# Altium integrated library ON Semi MOSFETs.IntLib: 1097 symbols (part 6 of 26)
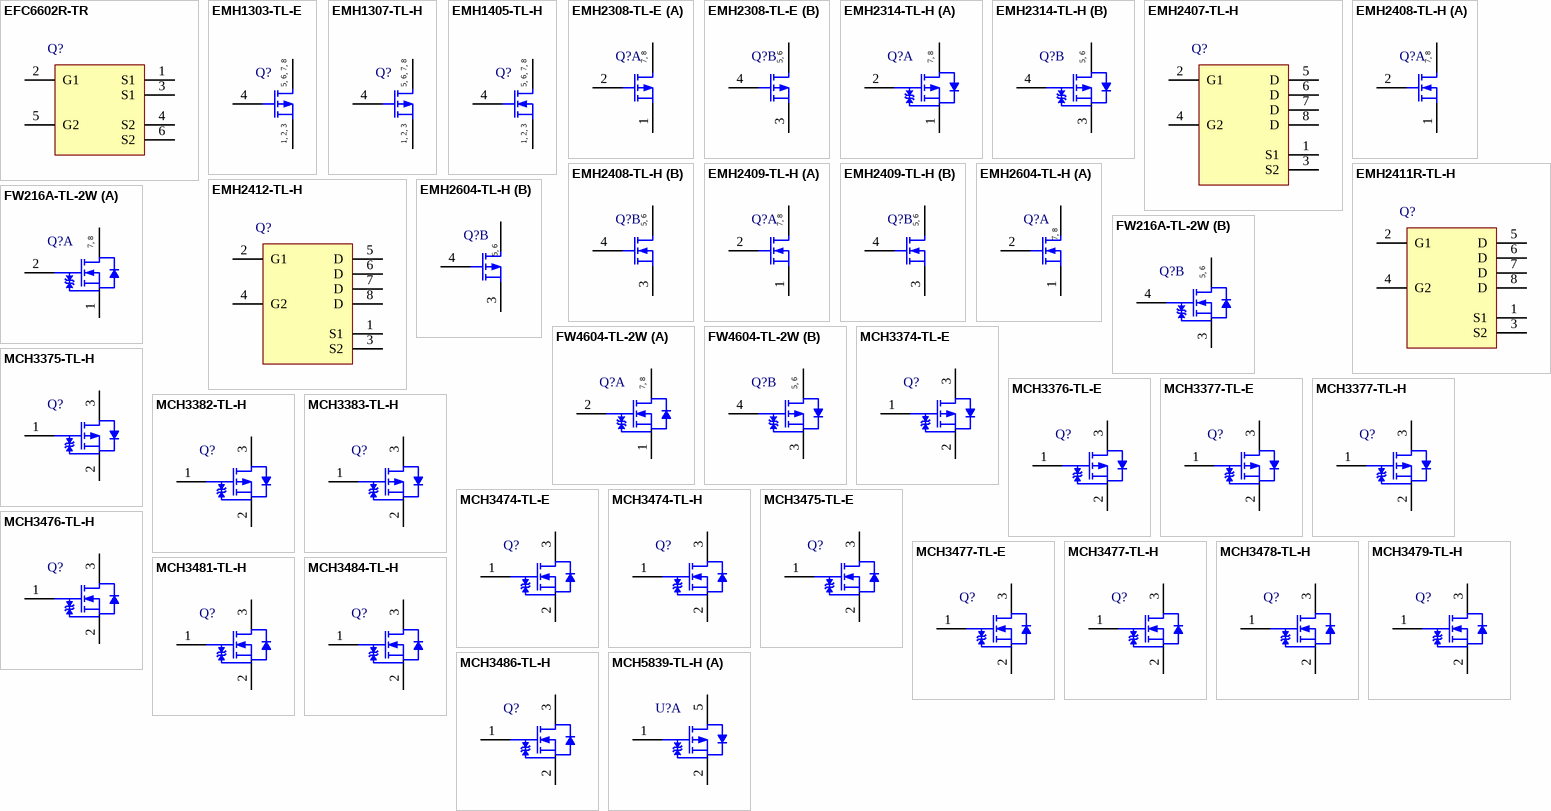
[diagram p36: symbols EFC6602R-TR to MCH5839-TL-H]

## MCH3474-TL-H
designator Q?
N-Channel Power MOSFET, 30 V, 4 A, 50 mOhm, 3-Pin MCPH, Pb-Free, Tape and Reel; Manufacturer: On Semiconductor; PartNumber: MCH3474-TL-H; Channel Polarity: N Channel; Ciss Typ (pF): 430; Configuration: Single; Coss Typ (pF): 59; Crss Typ (pF): 38; ID Max (A): 4; PD Max (W): 1; V(BR)DSS Min (V): 30; VGS Max (V): 12; VGS(th) Max (V): 1.3; PackageReference: MCPH-3; PackageDescription: 3-Pin Small Outline Transistor, Body 2 x 1.6 mm, Pitch 0.65 mm; Supplier 1: Digi-Key; Supplier Part Number 1: MCH3474-TL-H-ND; Supplier 2: Mouser; Supplier Part Number 2: 863-MCH3474-TL-H; Package Type: SC-70FL / MCPH-3; Packing: Tape and Reel; RoHS: Pb-Free; Mounting Technology: Surface Mount; ComponentLink1Description: Manufacturer URL; ComponentLink1URL: http://www.onsemi.com/; ComponentLink2Description: Datasheet; ComponentLink2URL: http://www.onsemi.com/PowerSolutions/product.do?id=MCH3474; ComponentLink3Description: Package Specification; ComponentLink3URL: http://www.onsemi.com/pub_link/Collateral/EN7354-D.PDF
footprint ONSC-MCPH-3_V (SOT23, 3-Leads, Body 2x1.6mm, Pitch 0.65mm)
pins: 1 G, 2 S, 3 D

## MCH3475-TL-E
designator Q?
N-Channel Power MOSFET, 30 V, 1.8 A, 180 mOhm, 3-Pin MCPH, Pb-Free, Tape and Reel; Manufacturer: On Semiconductor; PartNumber: MCH3475-TL-E; Channel Polarity: N Channel; Ciss Typ (pF): 88; Configuration: Single; Coss Typ (pF): 19; Crss Typ (pF): 11; ID Max (A): 1.8; PD Max (W): 0.8; V(BR)DSS Min (V): 30; VGS Max (V): 20; VGS(th) Max (V): 2.6; PackageReference: MCPH-3; PackageDescription: 3-Pin Small Outline Transistor, Body 2 x 1.6 mm, Pitch 0.65 mm; Supplier 1: Digi-Key; Supplier Part Number 1: 869-1172-2-ND; Supplier 2: Digi-Key; Supplier Part Number 2: 869-1172-1-ND; Supplier 3: Digi-Key; Supplier Part Number 3: 869-1172-6-ND; Supplier 4: Mouser; Supplier Part Number 4: 863-MCH3475-TL-E; Package Type: SC-70FL / MCPH-3; Packing: Tape and Reel; RoHS: Pb-Free; Mounting Technology: Surface Mount; ComponentLink1Description: Manufacturer URL; ComponentLink1URL: http://www.onsemi.com/; ComponentLink2Description: Datasheet; ComponentLink2URL: http://www.onsemi.cn/pub_link/Collateral/MCH3475-D.PDF; ComponentLink3Description: Package Specification; ComponentLink3URL: http://www.onsemi.com/pub_link/Collateral/EN7354-D.PDF
footprint ONSC-MCPH-3_V (SOT23, 3-Leads, Body 2x1.6mm, Pitch 0.65mm)
pins: 1 G, 2 S, 3 D

## MCH3476-TL-H
designator Q?
N-Channel Power MOSFET, 20 V, 2 A, 125 mOhm, 3-Pin MCPH, Pb-Free, Tape and Reel; Manufacturer: On Semiconductor; PartNumber: MCH3476-TL-H; Channel Polarity: N Channel; Ciss Typ (pF): 128; Configuration: Single; Coss Typ (pF): 28; Crss Typ (pF): 21; ID Max (A): 2; PD Max (W): 0.8; V(BR)DSS Min (V): 20; VGS Max (V): 12; VGS(th) Max (V): 1.3; PackageReference: MCPH-3; PackageDescription: 3-Pin Small Outline Transistor, Body 2 x 1.6 mm, Pitch 0.65 mm; Supplier 1: Digi-Key; Supplier Part Number 1: MCH3476-TL-H-ND; Supplier 2: Mouser; Supplier Part Number 2: 863-MCH3476-TL-H; Package Type: SC-70FL / MCPH-3; Packing: Tape and Reel; RoHS: Pb-Free; Mounting Technology: Surface Mount; ComponentLink1Description: Manufacturer URL; ComponentLink1URL: http://www.onsemi.com/; ComponentLink2Description: Datasheet; ComponentLink2URL: http://www.onsemi.cn/pub_link/Collateral/MCH3476.PDF; ComponentLink3Description: Package Specification; ComponentLink3URL: http://www.onsemi.com/pub_link/Collateral/EN7354-D.PDF
footprint ONSC-MCPH-3_V (SOT23, 3-Leads, Body 2x1.6mm, Pitch 0.65mm)
pins: 1 G, 2 S, 3 D

## MCH3477-TL-E
designator Q?
N-Channel Power MOSFET, 20 V, 4.5 A, 38 mOhm, 3-Pin MCPH, Pb-Free, Tape and Reel; Manufacturer: On Semiconductor; PartNumber: MCH3477-TL-E; Channel Polarity: N Channel; Ciss Typ (pF): 410; Configuration: Single; Coss Typ (pF): 84; Crss Typ (pF): 59; ID Max (A): 4.5; PD Max (W): 1; V(BR)DSS Min (V): 20; VGS Max (V): 12; VGS(th) Max (V): 1.3; PackageReference: MCPH-3; PackageDescription: 3-Pin Small Outline Transistor, Body 2 x 1.6 mm, Pitch 0.65 mm; Supplier 1: Digi-Key; Supplier Part Number 1: MCH3477-TL-E-ND; Supplier 2: Mouser; Supplier Part Number 2: 863-MCH3477-TL-E; Package Type: SC-70FL / MCPH-3; Packing: Tape and Reel; RoHS: Pb-Free; Mounting Technology: Surface Mount; ComponentLink1Description: Manufacturer URL; ComponentLink1URL: http://www.onsemi.com/; ComponentLink2Description: Datasheet; ComponentLink2URL: http://www.onsemi.com/pub_link/Collateral/MCH3477-D.PDF; ComponentLink3Description: Package Specification; ComponentLink3URL: http://www.onsemi.com/pub_link/Collateral/EN7354-D.PDF
footprint ONSC-MCPH-3_V (SOT23, 3-Leads, Body 2x1.6mm, Pitch 0.65mm)
pins: 1 G, 2 S, 3 D

## MCH3477-TL-H
designator Q?
N-Channel Power MOSFET, 20 V, 4.5 A, 38 mOhm, 3-Pin MCPH, Pb-Free, Tape and Reel; Manufacturer: On Semiconductor; PartNumber: MCH3477-TL-H; Channel Polarity: N Channel; Ciss Typ (pF): 410; Configuration: Single; Coss Typ (pF): 84; Crss Typ (pF): 59; ID Max (A): 4.5; PD Max (W): 1; V(BR)DSS Min (V): 20; VGS Max (V): 12; VGS(th) Max (V): 1.3; PackageReference: MCPH-3; PackageDescription: 3-Pin Small Outline Transistor, Body 2 x 1.6 mm, Pitch 0.65 mm; Supplier 1: Digi-Key; Supplier Part Number 1: MCH3477-TL-H-ND; Supplier 2: Mouser; Supplier Part Number 2: 863-MCH3477-TL-H; Package Type: SC-70FL / MCPH-3; Packing: Tape and Reel; RoHS: Pb-Free; Mounting Technology: Surface Mount; ComponentLink1Description: Manufacturer URL; ComponentLink1URL: http://www.onsemi.com/; ComponentLink2Description: Datasheet; ComponentLink2URL: http://www.onsemi.com/pub_link/Collateral/MCH3477-D.PDF; ComponentLink3Description: Package Specification; ComponentLink3URL: http://www.onsemi.com/pub_link/Collateral/EN7354-D.PDF
footprint ONSC-MCPH-3_V (SOT23, 3-Leads, Body 2x1.6mm, Pitch 0.65mm)
pins: 1 G, 2 S, 3 D

## MCH3478-TL-H
designator Q?
N-Channel Power MOSFET, 30 V, 2 A, 165 mOhm, 3-Pin MCPH, Pb-Free, Tape and Reel; Manufacturer: On Semiconductor; PartNumber: MCH3478-TL-H; Channel Polarity: N Channel; Ciss Typ (pF): 130; Configuration: Single; Coss Typ (pF): 21; Crss Typ (pF): 14; V(BR)DSS Min (V): 30; VGS Max (V): 12; VGS(th) Max (V): 1.3; PackageReference: MCPH-3; PackageDescription: 3-Pin Small Outline Transistor, Body 2 x 1.6 mm, Pitch 0.65 mm; Supplier 1: Digi-Key; Supplier Part Number 1: MCH3478-TL-H-ND; Supplier 2: Mouser; Supplier Part Number 2: 863-MCH3478-TL-H; Package Type: SC-70FL / MCPH-3; Packing: Tape and Reel; RoHS: Pb-Free; Mounting Technology: Surface Mount; ComponentLink1Description: Manufacturer URL; ComponentLink1URL: http://www.onsemi.com/; ComponentLink2Description: Datasheet; ComponentLink2URL: http://www.onsemi.cn/pub_link/Collateral/ENAA1353-D.PDF; ComponentLink3Description: Package Specification; ComponentLink3URL: http://www.onsemi.com/pub_link/Collateral/EN7354-D.PDF
footprint ONSC-MCPH-3_V (SOT23, 3-Leads, Body 2x1.6mm, Pitch 0.65mm)
pins: 1 G, 2 S, 3 D

## MCH3479-TL-H
designator Q?
N-Channel Power MOSFET, 20 V, 3.5 A, 64 mOhm, 3-Pin MCPH, Pb-Free, Tape and Reel; Manufacturer: On Semiconductor; PartNumber: MCH3479-TL-H; Channel Polarity: N Channel; Ciss Typ (pF): 260; Configuration: Single; Coss Typ (pF): 65; Crss Typ (pF): 50; ID Max (A): 3.5; PD Max (W): 0.9; V(BR)DSS Min (V): 20; VGS Max (V): 12; VGS(th) Max (V): 1.3; PackageReference: MCPH-3; PackageDescription: 3-Pin Small Outline Transistor, Body 2 x 1.6 mm, Pitch 0.65 mm; Supplier 1: Digi-Key; Supplier Part Number 1: MCH3479-TL-H-ND; Supplier 2: Mouser; Supplier Part Number 2: 863-MCH3479-TL-H; Package Type: SC-70FL / MCPH-3; Packing: Tape and Reel; RoHS: Pb-Free; Mounting Technology: Surface Mount; ComponentLink1Description: Manufacturer URL; ComponentLink1URL: http://www.onsemi.com/; ComponentLink2Description: Datasheet; ComponentLink2URL: http://www.onsemi.cn/pub_link/Collateral/ENA1813-D.PDF; ComponentLink3Description: Package Specification; ComponentLink3URL: http://www.onsemi.com/pub_link/Collateral/EN7354-D.PDF
footprint ONSC-MCPH-3_V (SOT23, 3-Leads, Body 2x1.6mm, Pitch 0.65mm)
pins: 1 G, 2 S, 3 D

## MCH3481-TL-H
designator Q?
N-Channel Power MOSFET, 20 V, 2 A, 104 mOhm, 3-Pin MCPH, Pb-Free, Tape and Reel; Manufacturer: On Semiconductor; PartNumber: MCH3481-TL-H; Channel Polarity: N Channel; Ciss Typ (pF): 175; Configuration: Single; Coss Typ (pF): 30; Crss Typ (pF): 25; ID Max (A): 2; PD Max (W): 0.8; V(BR)DSS Min (V): 20; VGS Max (V): 9; VGS(th) Max (V): 0.9; PackageReference: MCPH-3; PackageDescription: 3-Pin Small Outline Transistor, Body 2 x 1.6 mm, Pitch 0.65 mm; Supplier 1: Digi-Key; Supplier Part Number 1: MCH3481-TL-H-ND; Supplier 2: Newark; Supplier Part Number 2: 07W7072; Supplier 3: Mouser; Supplier Part Number 3: 863-MCH3481-TL-H; Package Type: SC-70FL / MCPH-3; Packing: Tape and Reel; RoHS: Pb-Free; Mounting Technology: Surface Mount; ComponentLink1Description: Manufacturer URL; ComponentLink1URL: http://www.onsemi.com/; ComponentLink2Description: Datasheet; ComponentLink2URL: http://www.onsemi.com/pub_link/Collateral/ENA1767-D.PDF; ComponentLink3Description: Package Specification; ComponentLink3URL: http://www.onsemi.com/pub_link/Collateral/EN7354-D.PDF
footprint ONSC-MCPH-3_V (SOT23, 3-Leads, Body 2x1.6mm, Pitch 0.65mm)
pins: 1 G, 2 S, 3 D

## MCH3484-TL-H
designator Q?
N-Channel Power MOSFET, 20 V, 4.5 A, 40 mOhm, 3-Pin MCPH, Pb-Free, Tape and Reel; Manufacturer: On Semiconductor; PartNumber: MCH3484-TL-H; Channel Polarity: N Channel; Ciss Typ (pF): 630; Configuration: Single; Coss Typ (pF): 75; Crss Typ (pF): 65; ID Max (A): 4.5; PD Max (W): 1; V(BR)DSS Min (V): 20; VGS Max (V): 5; VGS(th) Max (V): 0.8; PackageReference: MCPH-3; PackageDescription: 3-Pin Small Outline Transistor, Body 2 x 1.6 mm, Pitch 0.65 mm; Supplier 1: Digi-Key; Supplier Part Number 1: MCH3484-TL-H-ND; Supplier 2: Mouser; Supplier Part Number 2: 863-MCH3484-TL-H; Package Type: SC-70FL / MCPH-3; Packing: Tape and Reel; RoHS: Pb-Free; Mounting Technology: Surface Mount; ComponentLink1Description: Manufacturer URL; ComponentLink1URL: http://www.onsemi.com/; ComponentLink2Description: Datasheet; ComponentLink2URL: http://www.onsemi.cn/pub_link/Collateral/ENA1883-D.PDF; ComponentLink3Description: Package Specification; ComponentLink3URL: http://www.onsemi.com/pub_link/Collateral/EN7354-D.PDF
footprint ONSC-MCPH-3_V (SOT23, 3-Leads, Body 2x1.6mm, Pitch 0.65mm)
pins: 1 G, 2 S, 3 D

## MCH3486-TL-H
designator Q?
N-Channel Power MOSFET, 60 V, 2 A, 137 mOhm, 3-Pin MCPH, Pb-Free, Tape and Reel; Manufacturer: On Semiconductor; PartNumber: MCH3486-TL-H; Channel Polarity: N Channel; Ciss Typ (pF): 310; Configuration: Single; Coss Typ (pF): 40; Crss Typ (pF): 25; ID Max (A): 2; PD Max (W): 1; V(BR)DSS Min (V): 60; VGS Max (V): 20; VGS(th) Max (V): 2.6; PackageReference: MCPH-3; PackageDescription: 3-Pin Small Outline Transistor, Body 2 x 1.6 mm, Pitch 0.65 mm; Supplier 1: Newark; Supplier Part Number 1: 97W6144; Supplier 2: Mouser; Supplier Part Number 2: 863-MCH3486-TL-H; Package Type: SC-70FL / MCPH-3; Packing: Tape and Reel; RoHS: Pb-Free; Mounting Technology: Surface Mount; ComponentLink1Description: Manufacturer URL; ComponentLink1URL: http://www.onsemi.com/; ComponentLink2Description: Datasheet; ComponentLink2URL: http://www.onsemi.com/pub_link/Collateral/ENA2188-D.PDF; ComponentLink3Description: Package Specification; ComponentLink3URL: http://www.onsemi.com/pub_link/Collateral/EN7354-D.PDF
footprint ONSC-MCPH-3_V (SOT23, 3-Leads, Body 2x1.6mm, Pitch 0.65mm)
pins: 1 G, 2 S, 3 D

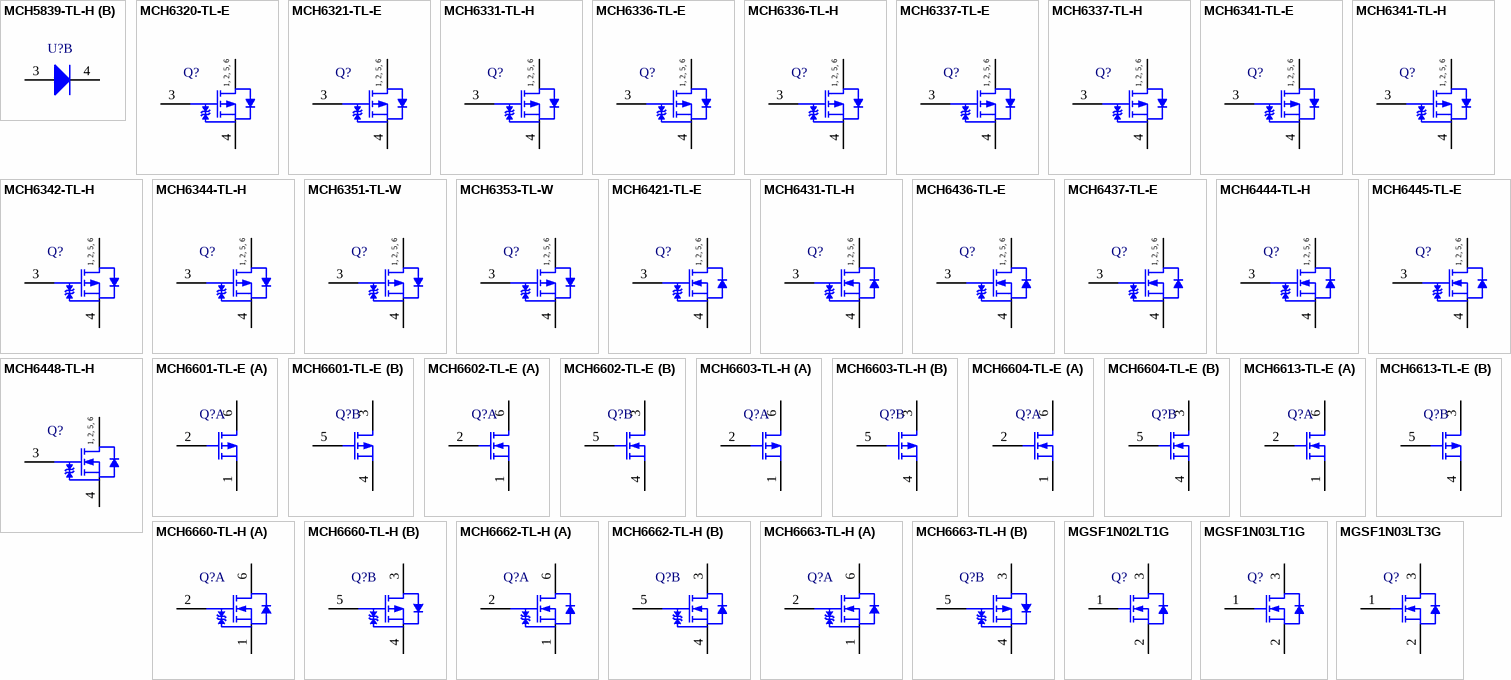
[diagram p6: symbols MCH5839-TL-H to MGSF1N03LT3G]

## MCH5839-TL-H
designator U?
P-Channel Power MOSFET, -20 V, -1.5 A, 266 mOhm, 5-Pin MCPH, Pb-Free, Tape and Reel; Manufacturer: On Semiconductor; PartNumber: MCH5839-TL-H; Channel Polarity: P Channel; Ciss Typ (pF): 120; Configuration: with Schottky Diode; Coss Typ (pF): 26; Crss Typ (pF): 20; ID Max (A): 1.5; PD Max (W): 0.8; VGS Max (V): 10; VGS(th) Max (V): 1.4; PackageReference: MCPH-5; PackageDescription: 5-Pin Small Outline Transistor, Body 2 x 1.6 mm, Pitch 0.65 mm; Supplier 1: Newark; Supplier Part Number 1: 97W6145; Supplier 2: Mouser; Supplier Part Number 2: 863-MCH5839-TL-H; Package Type: SC-88AFL / MCPH-5; Packing: Tape and Reel; RoHS: Pb-Free; V(BR)DSS Min (V): 20; Mounting Technology: Surface Mount; ComponentLink1Description: Manufacturer URL; ComponentLink1URL: http://www.onsemi.com/; ComponentLink2Description: Datasheet; ComponentLink2URL: http://www.onsemi.cn/pub_link/Collateral/ENA2165-D.PDF; ComponentLink3Description: Package Specification; ComponentLink3URL: http://www.onsemi.com/pub_link/Collateral/ENA1218-D.PDF
footprint ONSC-MCPH-5_V (SOT23, 5-Leads, Body 2x1.6mm, Pitch 0.65mm)
part A pins: 1 G, 2 S, 5 D
part B pins: 3 A, 4 K

## MCH6320-TL-E
designator Q?
P-Channel Power MOSFET, -12 V, -3.5 A, 70 mOhm, Single, 6-Pin MCPH, Pb-Free, Tape and Reel; Manufacturer: On Semiconductor; PartNumber: MCH6320-TL-E; Channel Polarity: P Channel; Ciss Typ (pF): 405; Coss Typ (pF): 145; Crss Typ (pF): 100; ID Max (A): 3.5; PD Max (W): 1.5; V(BR)DSS Min (V): 12; VGS Max (V): 10; VGS(th) Max (V): 1.4; PackageReference: MCPH-6; PackageDescription: 6-Pin Small Outline Transistor, Body 2 x 1.6 mm, Pitch 0.65 mm; Supplier 1: Digi-Key; Supplier Part Number 1: MCH6320-TL-E-ND; Supplier 2: Mouser; Supplier Part Number 2: 863-MCH6320-TL-E; Configuration: Single; Package Type: SC-88FL / MCPH-6; Packing: Tape and Reel; RoHS: Pb-Free; Mounting Technology: Surface Mount; ComponentLink1Description: Manufacturer URL; ComponentLink1URL: http://www.onsemi.com/; ComponentLink2Description: Datasheet; ComponentLink2URL: http://www.onsemi.cn/pub_link/Collateral/MCH6320-D.PDF; ComponentLink3Description: Package Specification; ComponentLink3URL: http://www.onsemi.com/pub_link/Collateral/ENA1601-D.PDF
footprint ONSC-MCPH-6_V (SOT23, 6-Leads, Body 2x1.6mm, Pitch 0.65mm)
pins: 1 D, 2 D, 3 G, 4 S, 5 D, 6 D
text: 1, 2, 5, 6

## MCH6321-TL-E
designator Q?
P-Channel Power MOSFET, -20 V, -4 A, 83 mOhm, Single, 6-Pin MCPH, Pb-Free, Tape and Reel; Manufacturer: On Semiconductor; PartNumber: MCH6321-TL-E; Channel Polarity: P Channel; Ciss Typ (pF): 375; Coss Typ (pF): 77; Crss Typ (pF): 58; ID Max (A): 4; PD Max (W): 1.5; V(BR)DSS Min (V): 20; VGS Max (V): 10; VGS(th) Max (V): 1.3; PackageReference: MCPH-6; PackageDescription: 6-Pin Small Outline Transistor, Body 2 x 1.6 mm, Pitch 0.65 mm; Supplier 1: Digi-Key; Supplier Part Number 1: MCH6321-TL-E-ND; Supplier 2: Mouser; Supplier Part Number 2: 863-MCH6321-TL-E; Configuration: Single; Package Type: SC-88FL / MCPH-6; Packing: Tape and Reel; RoHS: Pb-Free; Mounting Technology: Surface Mount; ComponentLink1Description: Manufacturer URL; ComponentLink1URL: http://www.onsemi.com/; ComponentLink2Description: Datasheet; ComponentLink2URL: http://www.onsemi.cn/pub_link/Collateral/MCH6321-D.PDF; ComponentLink3Description: Package Specification; ComponentLink3URL: http://www.onsemi.com/pub_link/Collateral/ENA1601-D.PDF
footprint ONSC-MCPH-6_V (SOT23, 6-Leads, Body 2x1.6mm, Pitch 0.65mm)
pins: 1 D, 2 D, 3 G, 4 S, 5 D, 6 D
text: 1, 2, 5, 6

## MCH6331-TL-H
designator Q?
P-Channel Power MOSFET, -30 V, -3.5 A, 98 mOhm, Single, 6-Pin MCPH, Pb-Free, Tape and Reel; Manufacturer: On Semiconductor; PartNumber: MCH6331-TL-H; Channel Polarity: P Channel; Ciss Typ (pF): 250; Coss Typ (pF): 65; Crss Typ (pF): 46; ID Max (A): 3.5; PD Max (W): 1.5; V(BR)DSS Min (V): 30; VGS Max (V): 20; VGS(th) Max (V): 2.6; PackageReference: MCPH-6; PackageDescription: 6-Pin Small Outline Transistor, Body 2 x 1.6 mm, Pitch 0.65 mm; Supplier 1: Digi-Key; Supplier Part Number 1: MCH6331-TL-H-ND; Supplier 2: Mouser; Supplier Part Number 2: 863-MCH6331-TL-H; Configuration: Single; Package Type: SC-88FL / MCPH-6; Packing: Tape and Reel; RoHS: Pb-Free; Mounting Technology: Surface Mount; ComponentLink1Description: Manufacturer URL; ComponentLink1URL: http://www.onsemi.com/; ComponentLink2Description: Datasheet; ComponentLink2URL: http://www.onsemi.cn/pub_link/Collateral/MCH6331-D.PDF; ComponentLink3Description: Package Specification; ComponentLink3URL: http://www.onsemi.com/pub_link/Collateral/ENA1601-D.PDF
footprint ONSC-MCPH-6_V (SOT23, 6-Leads, Body 2x1.6mm, Pitch 0.65mm)
pins: 1 D, 2 D, 3 G, 4 S, 5 D, 6 D
text: 1, 2, 5, 6

## MCH6336-TL-E
designator Q?
P-Channel Power MOSFET, -12 V, -5 A, 43 mOhm, Single, 6-Pin MCPH, Pb-Free, Tape and Reel; Manufacturer: On Semiconductor; PartNumber: MCH6336-TL-E; Channel Polarity: P Channel; Ciss Typ (pF): 660; Coss Typ (pF): 210; Crss Typ (pF): 155; ID Max (A): 5; PD Max (W): 1.5; V(BR)DSS Min (V): 12; VGS Max (V): 10; VGS(th) Max (V): 1.4; PackageReference: MCPH-6; PackageDescription: 6-Pin Small Outline Transistor, Body 2 x 1.6 mm, Pitch 0.65 mm; Supplier 1: Newark; Supplier Part Number 1: 45W8491; Supplier 2: Mouser; Supplier Part Number 2: 863-MCH6336-TL-E; Configuration: Single; Package Type: SC-88FL / MCPH-6; Packing: Tape and Reel; RoHS: Pb-Free; Mounting Technology: Surface Mount; ComponentLink1Description: Manufacturer URL; ComponentLink1URL: http://www.onsemi.com/; ComponentLink2Description: Datasheet; ComponentLink2URL: http://www.onsemi.cn/pub_link/Collateral/MCH6336-D.PDF; ComponentLink3Description: Package Specification; ComponentLink3URL: http://www.onsemi.com/pub_link/Collateral/ENA1601-D.PDF
footprint ONSC-MCPH-6_V (SOT23, 6-Leads, Body 2x1.6mm, Pitch 0.65mm)
pins: 1 D, 2 D, 3 G, 4 S, 5 D, 6 D
text: 1, 2, 5, 6

## MCH6336-TL-H
designator Q?
P-Channel Power MOSFET, -12 V, -5 A, 43 mOhm, Single, 6-Pin MCPH, Pb-Free, Tape and Reel; Manufacturer: On Semiconductor; PartNumber: MCH6336-TL-H; Channel Polarity: P Channel; Ciss Typ (pF): 660; Coss Typ (pF): 210; Crss Typ (pF): 155; ID Max (A): 5; PD Max (W): 1.5; V(BR)DSS Min (V): 12; VGS Max (V): 10; VGS(th) Max (V): 1.4; PackageReference: MCPH-6; PackageDescription: 6-Pin Small Outline Transistor, Body 2 x 1.6 mm, Pitch 0.65 mm; Supplier 1: Digi-Key; Supplier Part Number 1: MCH6336-TL-H-ND; Supplier 2: Mouser; Supplier Part Number 2: 863-MCH6336-TL-H; Configuration: Single; Package Type: SC-88FL / MCPH-6; Packing: Tape and Reel; RoHS: Pb-Free; Mounting Technology: Surface Mount; ComponentLink1Description: Manufacturer URL; ComponentLink1URL: http://www.onsemi.com/; ComponentLink2Description: Datasheet; ComponentLink2URL: http://www.onsemi.cn/pub_link/Collateral/MCH6336-D.PDF; ComponentLink3Description: Package Specification; ComponentLink3URL: http://www.onsemi.com/pub_link/Collateral/ENA1601-D.PDF
footprint ONSC-MCPH-6_V (SOT23, 6-Leads, Body 2x1.6mm, Pitch 0.65mm)
pins: 1 D, 2 D, 3 G, 4 S, 5 D, 6 D
text: 1, 2, 5, 6

## MCH6337-TL-E
designator Q?
P-Channel Power MOSFET, -20 V, -4.5 A, 49 mOhm, Single, 6-Pin MCPH, Pb-Free, Tape and Reel; Manufacturer: On Semiconductor; PartNumber: MCH6337-TL-E; Channel Polarity: P Channel; Ciss Typ (pF): 670; Coss Typ (pF): 130; Crss Typ (pF): 94; ID Max (A): 4.5; PD Max (W): 1.5; V(BR)DSS Min (V): 20; VGS Max (V): 10; VGS(th) Max (V): 1.3; PackageReference: MCPH-6; PackageDescription: 6-Pin Small Outline Transistor, Body 2 x 1.6 mm, Pitch 0.65 mm; Supplier 1: Digi-Key; Supplier Part Number 1: 869-1177-2-ND; Supplier 2: Digi-Key; Supplier Part Number 2: 869-1177-1-ND; Supplier 3: Digi-Key; Supplier Part Number 3: 869-1177-6-ND; Supplier 4: Newark; Supplier Part Number 4: 45W8492; Supplier 5: Mouser; Supplier Part Number 5: 863-MCH6337-TL-E; Configuration: Single; Package Type: SC-88FL / MCPH-6; Packing: Tape and Reel; RoHS: Pb-Free; Mounting Technology: Surface Mount; ComponentLink1Description: Manufacturer URL; ComponentLink1URL: http://www.onsemi.com/; ComponentLink2Description: Datasheet; ComponentLink2URL: http://www.onsemi.cn/pub_link/Collateral/MCH6337-D.PDF; ComponentLink3Description: Package Specification; ComponentLink3URL: http://www.onsemi.com/pub_link/Collateral/ENA1601-D.PDF
footprint ONSC-MCPH-6_V (SOT23, 6-Leads, Body 2x1.6mm, Pitch 0.65mm)
pins: 1 D, 2 D, 3 G, 4 S, 5 D, 6 D
text: 1, 2, 5, 6

## MCH6337-TL-H
designator Q?
P-Channel Power MOSFET, -20 V, -4.5 A, 49 mOhm, Single, 6-Pin MCPH, Pb-Free, Tape and Reel; Manufacturer: On Semiconductor; PartNumber: MCH6337-TL-H; Channel Polarity: P Channel; Ciss Typ (pF): 670; Coss Typ (pF): 130; Crss Typ (pF): 94; ID Max (A): 4.5; PD Max (W): 1.5; V(BR)DSS Min (V): 20; VGS Max (V): 10; VGS(th) Max (V): 1.3; PackageReference: MCPH-6; PackageDescription: 6-Pin Small Outline Transistor, Body 2 x 1.6 mm, Pitch 0.65 mm; Supplier 1: Digi-Key; Supplier Part Number 1: MCH6337-TL-H-ND; Supplier 2: Mouser; Supplier Part Number 2: 863-MCH6337-TL-H; Configuration: Single; Package Type: SC-88FL / MCPH-6; Packing: Tape and Reel; RoHS: Pb-Free; Mounting Technology: Surface Mount; ComponentLink1Description: Manufacturer URL; ComponentLink1URL: http://www.onsemi.com/; ComponentLink2Description: Datasheet; ComponentLink2URL: http://www.onsemi.cn/pub_link/Collateral/MCH6337-D.PDF; ComponentLink3Description: Package Specification; ComponentLink3URL: http://www.onsemi.com/pub_link/Collateral/ENA1601-D.PDF
footprint ONSC-MCPH-6_V (SOT23, 6-Leads, Body 2x1.6mm, Pitch 0.65mm)
pins: 1 D, 2 D, 3 G, 4 S, 5 D, 6 D
text: 1, 2, 5, 6

## MCH6341-TL-E
designator Q?
P-Channel Power MOSFET, -30 V, -5 A, 59 mOhm, Single, 6-Pin MCPH, Pb-Free, Tape and Reel; Manufacturer: On Semiconductor; PartNumber: MCH6341-TL-E; Channel Polarity: P Channel; Ciss Typ (pF): 430; Coss Typ (pF): 105; Crss Typ (pF): 75; ID Max (A): 5; PD Max (W): 1.5; V(BR)DSS Min (V): 30; VGS Max (V): 20; VGS(th) Max (V): 2.6; PackageReference: MCPH-6; PackageDescription: 6-Pin Small Outline Transistor, Body 2 x 1.6 mm, Pitch 0.65 mm; Supplier 1: Digi-Key; Supplier Part Number 1: MCH6341-TL-E-ND; Supplier 2: Mouser; Supplier Part Number 2: 863-MCH6341-TL-E; Configuration: Single; Package Type: SC-88FL / MCPH-6; Packing: Tape and Reel; RoHS: Pb-Free; Mounting Technology: Surface Mount; ComponentLink1Description: Manufacturer URL; ComponentLink1URL: http://www.onsemi.com/; ComponentLink2Description: Datasheet; ComponentLink2URL: http://www.onsemi.cn/pub_link/Collateral/MCH6341-D.PDF; ComponentLink3Description: Package Specification; ComponentLink3URL: http://www.onsemi.com/pub_link/Collateral/ENA1601-D.PDF
footprint ONSC-MCPH-6_V (SOT23, 6-Leads, Body 2x1.6mm, Pitch 0.65mm)
pins: 1 D, 2 D, 3 G, 4 S, 5 D, 6 D
text: 1, 2, 5, 6

## MCH6341-TL-H
designator Q?
P-Channel Power MOSFET, -30 V, -5 A, 59 mOhm, Single, 6-Pin MCPH, Pb-Free, Tape and Reel; Manufacturer: On Semiconductor; PartNumber: MCH6341-TL-H; Channel Polarity: P Channel; Ciss Typ (pF): 430; Coss Typ (pF): 105; Crss Typ (pF): 75; ID Max (A): 5; PD Max (W): 1.5; V(BR)DSS Min (V): 30; VGS Max (V): 20; VGS(th) Max (V): 2.6; PackageReference: MCPH-6; PackageDescription: 6-Pin Small Outline Transistor, Body 2 x 1.6 mm, Pitch 0.65 mm; Supplier 1: Digi-Key; Supplier Part Number 1: MCH6341-TL-H-ND; Supplier 2: Mouser; Supplier Part Number 2: 863-MCH6341-TL-H; Configuration: Single; Package Type: SC-88FL / MCPH-6; Packing: Tape and Reel; RoHS: Pb-Free; Mounting Technology: Surface Mount; ComponentLink1Description: Manufacturer URL; ComponentLink1URL: http://www.onsemi.com/; ComponentLink2Description: Datasheet; ComponentLink2URL: http://www.onsemi.cn/pub_link/Collateral/MCH6341-D.PDF; ComponentLink3Description: Package Specification; ComponentLink3URL: http://www.onsemi.com/pub_link/Collateral/ENA1601-D.PDF
footprint ONSC-MCPH-6_V (SOT23, 6-Leads, Body 2x1.6mm, Pitch 0.65mm)
pins: 1 D, 2 D, 3 G, 4 S, 5 D, 6 D
text: 1, 2, 5, 6

## MCH6342-TL-H
designator Q?
P-Channel Power MOSFET, -30 V, -4.5 A, 73 mOhm, Single, 6-Pin MCPH, Pb-Free, Tape and Reel; Manufacturer: On Semiconductor; PartNumber: MCH6342-TL-H; Channel Polarity: P Channel; Ciss Typ (pF): 650; Coss Typ (pF): 105; Crss Typ (pF): 83; ID Max (A): 4.5; PD Max (W): 1.5; V(BR)DSS Min (V): 30; VGS Max (V): 10; VGS(th) Max (V): 1.3; PackageReference: MCPH-6; PackageDescription: 6-Pin Small Outline Transistor, Body 2 x 1.6 mm, Pitch 0.65 mm; Supplier 1: Digi-Key; Supplier Part Number 1: MCH6342-TL-H-ND; Supplier 2: Mouser; Supplier Part Number 2: 863-MCH6342-TL-H; Configuration: Single; Package Type: SC-88FL / MCPH-6; Packing: Tape and Reel; RoHS: Pb-Free; Mounting Technology: Surface Mount; ComponentLink1Description: Manufacturer URL; ComponentLink1URL: http://www.onsemi.com/; ComponentLink2Description: Datasheet; ComponentLink2URL: http://www.onsemi.cn/pub_link/Collateral/ENA1553-D.PDF; ComponentLink3Description: Package Specification; ComponentLink3URL: http://www.onsemi.com/pub_link/Collateral/ENA1601-D.PDF
footprint ONSC-MCPH-6_V (SOT23, 6-Leads, Body 2x1.6mm, Pitch 0.65mm)
pins: 1 D, 2 D, 3 G, 4 S, 5 D, 6 D
text: 1, 2, 5, 6

## MCH6344-TL-H
designator Q?
P-Channel Power MOSFET, -30 V, -2 A, 150 mOhm, Single, 6-Pin MCPH, Pb-Free, Tape and Reel; Manufacturer: On Semiconductor; PartNumber: MCH6344-TL-H; Channel Polarity: P Channel; Ciss Typ (pF): 172; Coss Typ (pF): 51; Crss Typ (pF): 36; ID Max (A): 2; PD Max (W): 0.8; V(BR)DSS Min (V): 30; VGS Max (V): 20; VGS(th) Max (V): 2.6; PackageReference: MCPH-6; PackageDescription: 6-Pin Small Outline Transistor, Body 2 x 1.6 mm, Pitch 0.65 mm; Supplier 1: Digi-Key; Supplier Part Number 1: MCH6344-TL-H-ND; Supplier 2: Mouser; Supplier Part Number 2: 863-MCH6344-TL-H; Configuration: Single; Package Type: SC-88FL / MCPH-6; Packing: Tape and Reel; RoHS: Pb-Free; Mounting Technology: Surface Mount; ComponentLink1Description: Manufacturer URL; ComponentLink1URL: http://www.onsemi.com/; ComponentLink2Description: Datasheet; ComponentLink2URL: http://www.onsemi.cn/pub_link/Collateral/EN8934-D.PDF; ComponentLink3Description: Package Specification; ComponentLink3URL: http://www.onsemi.com/pub_link/Collateral/ENA1601-D.PDF
footprint ONSC-MCPH-6_V (SOT23, 6-Leads, Body 2x1.6mm, Pitch 0.65mm)
pins: 1 D, 2 D, 3 G, 4 S, 5 D, 6 D
text: 1, 2, 5, 6

## MCH6351-TL-W
designator Q?
P-Channel Power MOSFET -12 V, -9 A, 16.9 mOhm, Single, 6-Pin MCPH, Pb-Free, Tape and Reel; Manufacturer: On Semiconductor; PartNumber: MCH6351-TL-W; Channel Polarity: P Channel; Ciss Typ (pF): 2200; Coss Typ (pF): 350; Crss Typ (pF): 320; ID Max (A): 9; PD Max (W): 1.5; V(BR)DSS Min (V): 12; VGS Max (V): 10; VGS(th) Max (V): 1.3; PackageReference: MCPH-6; PackageDescription: 6-Pin Small Outline Transistor, Body 2 x 1.6 mm, Pitch 0.65 mm; Supplier 1: Newark; Supplier Part Number 1: 97W6146; Supplier 2: Mouser; Supplier Part Number 2: 863-MCH6351-TL-W; Configuration: Single; Package Type: SC-88FL / MCPH-6; Packing: Tape and Reel; RoHS: Pb-Free; Mounting Technology: Surface Mount; ComponentLink1Description: Manufacturer URL; ComponentLink1URL: http://www.onsemi.com/; ComponentLink2Description: Datasheet; ComponentLink2URL: http://www.onsemi.com/pub_link/Collateral/ENA2198-D.PDF; ComponentLink3Description: Package Specification; ComponentLink3URL: http://www.onsemi.com/pub_link/Collateral/ENA1601-D.PDF
footprint ONSC-MCPH-6_V (SOT23, 6-Leads, Body 2x1.6mm, Pitch 0.65mm)
pins: 1 D, 2 D, 3 G, 4 S, 5 D, 6 D
text: 1, 2, 5, 6

## MCH6353-TL-W
designator Q?
P-Channel Power MOSFET, -12 V, -6.0 A, 35 mOhm, Single, 6-Pin MCPH, Pb-Free, Tape and Reel; Manufacturer: On Semiconductor; PartNumber: MCH6353-TL-W; Channel Polarity: P Channel; Ciss Typ (pF): 1250; Coss Typ (pF): 160; Crss Typ (pF): 150; ID Max (A): 6; PD Max (W): 1.4; V(BR)DSS Min (V): 12; VGS Max (V): 10; PackageReference: MCPH-6; PackageDescription: 6-Pin Small Outline Transistor, Body 2 x 1.6 mm, Pitch 0.65 mm; Supplier 1: Newark; Supplier Part Number 1: 11X3289; Supplier 2: Mouser; Supplier Part Number 2: 863-MCH6353-TL-W; Configuration: Single; Package Type: SC-88FL / MCPH-6; Packing: Tape and Reel; RoHS: Pb-Free; VGS(th) Max (V): 1.4; Mounting Technology: Surface Mount; ComponentLink1Description: Manufacturer URL; ComponentLink1URL: http://www.onsemi.com/; ComponentLink2Description: Datasheet; ComponentLink2URL: http://www.onsemi.com/pub_link/Collateral/ENA2206-D.PDF; ComponentLink3Description: Package Specification; ComponentLink3URL: http://www.onsemi.com/pub_link/Collateral/ENA1601-D.PDF
footprint ONSC-MCPH-6_V (SOT23, 6-Leads, Body 2x1.6mm, Pitch 0.65mm)
pins: 1 D, 2 D, 3 G, 4 S, 5 D, 6 D
text: 1, 2, 5, 6

## MCH6421-TL-E
designator Q?
N-Channel Power MOSFET, 20 V, 5.5 A, 38 mOhm, Single, 6-Pin MCPH, Pb-Free, Tape and Reel; Manufacturer: On Semiconductor; PartNumber: MCH6421-TL-E; Channel Polarity: N Channel; Ciss Typ (pF): 410; Coss Typ (pF): 84; Crss Typ (pF): 59; ID Max (A): 5.5; PD Max (W): 1.5; V(BR)DSS Min (V): 20; VGS Max (V): 12; VGS(th) Max (V): 1.3; PackageReference: MCPH-6; PackageDescription: 6-Pin Small Outline Transistor, Body 2 x 1.6 mm, Pitch 0.65 mm; Supplier 1: Digi-Key; Supplier Part Number 1: MCH6421-TL-E-ND; Supplier 2: Newark; Supplier Part Number 2: 65T1382; Supplier 3: Mouser; Supplier Part Number 3: 863-MCH6421-TL-E; Configuration: Single; Package Type: SC-88FL / MCPH-6; Packing: Tape and Reel; RoHS: Pb-Free; Mounting Technology: Surface Mount; ComponentLink1Description: Manufacturer URL; ComponentLink1URL: http://www.onsemi.com/; ComponentLink2Description: Datasheet; ComponentLink2URL: http://www.onsemi.cn/pub_link/Collateral/MCH6421-D.PDF; ComponentLink3Description: Package Specification; ComponentLink3URL: http://www.onsemi.com/pub_link/Collateral/ENA1601-D.PDF
footprint ONSC-MCPH-6_V (SOT23, 6-Leads, Body 2x1.6mm, Pitch 0.65mm)
pins: 1 D, 2 D, 3 G, 4 S, 5 D, 6 D
text: 1, 2, 5, 6

## MCH6431-TL-H
designator Q?
N-Channel Power MOSFET, 30 V, 5 A, 55 mOhm, Single, 6-Pin MCPH, Pb-Free, Tape and Reel; Manufacturer: On Semiconductor; PartNumber: MCH6431-TL-H; Channel Polarity: N Channel; Ciss Typ (pF): 280; Coss Typ (pF): 60; Crss Typ (pF): 30; ID Max (A): 5; PD Max (W): 1.5; VGS Max (V): 20; VGS(th) Max (V): 2.6; PackageReference: MCPH-6; PackageDescription: 6-Pin Small Outline Transistor, Body 2 x 1.6 mm, Pitch 0.65 mm; Supplier 1: Digi-Key; Supplier Part Number 1: MCH6431-TL-H-ND; Supplier 2: Newark; Supplier Part Number 2: 52T8103; Supplier 3: Mouser; Supplier Part Number 3: 863-MCH6431-TL-H; Configuration: Single; Package Type: SC-88FL / MCPH-6; Packing: Tape and Reel; RoHS: Pb-Free; V(BR)DSS Min (V): 30; Mounting Technology: Surface Mount; ComponentLink1Description: Manufacturer URL; ComponentLink1URL: http://www.onsemi.com/; ComponentLink2Description: Datasheet; ComponentLink2URL: http://www.onsemi.cn/pub_link/Collateral/MCH6431-D.PDF; ComponentLink3Description: Package Specification; ComponentLink3URL: http://www.onsemi.com/pub_link/Collateral/ENA1601-D.PDF
footprint ONSC-MCPH-6_V (SOT23, 6-Leads, Body 2x1.6mm, Pitch 0.65mm)
pins: 1 D, 2 D, 3 G, 4 S, 5 D, 6 D
text: 1, 2, 5, 6

## MCH6436-TL-E
designator Q?
N-Channel Power MOSFET, 30 V, 6 A, 34 mOhm, Single, 6-Pin MCPH, Pb-Free, Tape and Reel; Manufacturer: On Semiconductor; PartNumber: MCH6436-TL-E; Channel Polarity: N Channel; Ciss Typ (pF): 710; Coss Typ (pF): 95; Crss Typ (pF): 65; ID Max (A): 6; PD Max (W): 1.5; V(BR)DSS Min (V): 30; VGS Max (V): 12; VGS(th) Max (V): 1.3; PackageReference: MCPH-6; PackageDescription: 6-Pin Small Outline Transistor, Body 2 x 1.6 mm, Pitch 0.65 mm; Supplier 1: Digi-Key; Supplier Part Number 1: MCH6436-TL-E-ND; Supplier 2: Newark; Supplier Part Number 2: 52T8104; Supplier 3: Mouser; Supplier Part Number 3: 863-MCH6436-TL-E; Configuration: Single; Package Type: SC-88FL / MCPH-6; Packing: Tape and Reel; RoHS: Pb-Free; Mounting Technology: Surface Mount; ComponentLink1Description: Manufacturer URL; ComponentLink1URL: http://www.onsemi.com/; ComponentLink2Description: Datasheet; ComponentLink2URL: http://www.onsemi.cn/pub_link/Collateral/MCH6436-D.PDF; ComponentLink3Description: Package Specification; ComponentLink3URL: http://www.onsemi.com/pub_link/Collateral/ENA1601-D.PDF
footprint ONSC-MCPH-6_V (SOT23, 6-Leads, Body 2x1.6mm, Pitch 0.65mm)
pins: 1 D, 2 D, 3 G, 4 S, 5 D, 6 D
text: 1, 2, 5, 6

## MCH6437-TL-E
designator Q?
N-Channel Power MOSFET, 20 V, 7 A, 24 mOhm, Single, 6-Pin MCPH, Pb-Free, Tape and Reel; Manufacturer: On Semiconductor; PartNumber: MCH6437-TL-E; Channel Polarity: N Channel; Ciss Typ (pF): 660; Coss Typ (pF): 125; Crss Typ (pF): 100; ID Max (A): 7; PD Max (W): 1.5; V(BR)DSS Min (V): 20; VGS Max (V): 12; VGS(th) Max (V): 1.3; PackageReference: MCPH-6; PackageDescription: 6-Pin Small Outline Transistor, Body 2 x 1.6 mm, Pitch 0.65 mm; Supplier 1: Digi-Key; Supplier Part Number 1: MCH6437-TL-E-ND; Supplier 2: Mouser; Supplier Part Number 2: 863-MCH6437-TL-E; Configuration: Single; Package Type: SC-88FL / MCPH-6; Packing: Tape and Reel; RoHS: Pb-Free; Mounting Technology: Surface Mount; ComponentLink1Description: Manufacturer URL; ComponentLink1URL: http://www.onsemi.com/; ComponentLink2Description: Datasheet; ComponentLink2URL: http://www.onsemi.cn/pub_link/Collateral/MCH6437-D.PDF; ComponentLink3Description: Package Specification; ComponentLink3URL: http://www.onsemi.com/pub_link/Collateral/ENA1601-D.PDF
footprint ONSC-MCPH-6_V (SOT23, 6-Leads, Body 2x1.6mm, Pitch 0.65mm)
pins: 1 D, 2 D, 3 G, 4 S, 5 D, 6 D
text: 1, 2, 5, 6

## MCH6444-TL-H
designator Q?
N-Channel Power MOSFET, 35 V, 2.5 A, 98 mOhm, Single, 6-Pin MCPH, Pb-Free, Tape and Reel; Manufacturer: On Semiconductor; PartNumber: MCH6444-TL-H; Channel Polarity: N Channel; Ciss Typ (pF): 186; Coss Typ (pF): 36; Crss Typ (pF): 22; ID Max (A): 2.5; PD Max (W): 0.8; V(BR)DSS Min (V): 35; VGS Max (V): 20; VGS(th) Max (V): 2.6; PackageReference: MCPH-6; PackageDescription: 6-Pin Small Outline Transistor, Body 2 x 1.6 mm, Pitch 0.65 mm; Supplier 1: Digi-Key; Supplier Part Number 1: MCH6444-TL-H-ND; Supplier 2: Mouser; Supplier Part Number 2: 863-MCH6444-TL-H; Configuration: Single; Package Type: SC-88FL / MCPH-6; Packing: Tape and Reel; RoHS: Pb-Free; Mounting Technology: Surface Mount; ComponentLink1Description: Manufacturer URL; ComponentLink1URL: http://www.onsemi.com/; ComponentLink2Description: Datasheet; ComponentLink2URL: http://www.onsemi.cn/pub_link/Collateral/EN8935-D.PDF; ComponentLink3Description: Package Specification; ComponentLink3URL: http://www.onsemi.com/pub_link/Collateral/ENA1601-D.PDF
footprint ONSC-MCPH-6_V (SOT23, 6-Leads, Body 2x1.6mm, Pitch 0.65mm)
pins: 1 D, 2 D, 3 G, 4 S, 5 D, 6 D
text: 1, 2, 5, 6

## MCH6445-TL-E
designator Q?
N-Channel Power MOSFET, 60 V, 4 A, 78 mOhm, Single, 6-Pin MCPH, Pb-Free, Tape and Reel; Manufacturer: On Semiconductor; PartNumber: MCH6445-TL-E; Channel Polarity: N Channel; Ciss Typ (pF): 505; Coss Typ (pF): 57; Crss Typ (pF): 37; ID Max (A): 4; PD Max (W): 1.5; V(BR)DSS Min (V): 60; VGS Max (V): 20; VGS(th) Max (V): 2.6; PackageReference: MCPH-6; PackageDescription: 6-Pin Small Outline Transistor, Body 2 x 1.6 mm, Pitch 0.65 mm; Supplier 1: Digi-Key; Supplier Part Number 1: MCH6445-TL-E-ND; Supplier 2: Mouser; Supplier Part Number 2: 863-MCH6445-TL-E; Configuration: Single; Package Type: SC-88FL / MCPH-6; Packing: Tape and Reel; RoHS: Pb-Free; Mounting Technology: Surface Mount; ComponentLink1Description: Manufacturer URL; ComponentLink1URL: http://www.onsemi.com/; ComponentLink2Description: Datasheet; ComponentLink2URL: http://www.onsemi.cn/pub_link/Collateral/MCH6445-D.PDF; ComponentLink3Description: Package Specification; ComponentLink3URL: http://www.onsemi.com/pub_link/Collateral/ENA1601-D.PDF
footprint ONSC-MCPH-6_V (SOT23, 6-Leads, Body 2x1.6mm, Pitch 0.65mm)
pins: 1 D, 2 D, 3 G, 4 S, 5 D, 6 D
text: 1, 2, 5, 6

## MCH6448-TL-H
designator Q?
N-Channel Power MOSFET, 20 V, 8 A, 22 mOhm, Single, 6-Pin MCPH, Pb-Free, Tape and Reel; Manufacturer: On Semiconductor; PartNumber: MCH6448-TL-H; Channel Polarity: N Channel; Ciss Typ (pF): 705; Coss Typ (pF): 150; Crss Typ (pF): 125; ID Max (A): 8; PD Max (W): 1.5; V(BR)DSS Min (V): 20; VGS Max (V): 9; VGS(th) Max (V): 1; PackageReference: MCPH-6; PackageDescription: 6-Pin Small Outline Transistor, Body 2 x 1.6 mm, Pitch 0.65 mm; Supplier 1: Digi-Key; Supplier Part Number 1: MCH6448-TL-H-ND; Supplier 2: Mouser; Supplier Part Number 2: 863-MCH6448-TL-H; Configuration: Single; Package Type: SC-88FL / MCPH-6; Packing: Tape and Reel; RoHS: Pb-Free; Mounting Technology: Surface Mount; ComponentLink1Description: Manufacturer URL; ComponentLink1URL: http://www.onsemi.com/; ComponentLink2Description: Datasheet; ComponentLink2URL: http://www.onsemi.com/pub_link/Collateral/ENA2004-D.PDF; ComponentLink3Description: Package Specification; ComponentLink3URL: http://www.onsemi.com/pub_link/Collateral/ENA1601-D.PDF
footprint ONSC-MCPH-6_V (SOT23, 6-Leads, Body 2x1.6mm, Pitch 0.65mm)
pins: 1 D, 2 D, 3 G, 4 S, 5 D, 6 D
text: 1, 2, 5, 6

## MCH6601-TL-E
designator Q?
P-Channel Power MOSFET, -30 V, -0.2 A, 10.4 Ohm, Dual, 6-Pin MCPH, Pb-Free, Tape and Reel; Manufacturer: On Semiconductor; PartNumber: MCH6601-TL-E; Channel Polarity: P Channel; Ciss Typ (pF): 7.5; Coss Typ (pF): 5.7; Crss Typ (pF): 1.8; ID Max (A): 0.2; PD Max (W): 0.8; V(BR)DSS Min (V): 30; VGS Max (V): 10; VGS(th) Max (V): 1.4; PackageReference: MCPH-6; PackageDescription: 6-Pin Small Outline Transistor, Body 2 x 1.6 mm, Pitch 0.65 mm; Supplier 1: Digi-Key; Supplier Part Number 1: MCH6601-TL-E-ND; Supplier 2: Mouser; Supplier Part Number 2: 863-MCH6601-TL-E; Configuration: Dual; Package Type: SC-88FL / MCPH-6; Packing: Tape and Reel; RoHS: Pb-Free; Mounting Technology: Surface Mount; ComponentLink1Description: Manufacturer URL; ComponentLink1URL: http://www.onsemi.com/; ComponentLink2Description: Datasheet; ComponentLink2URL: http://www.onsemi.cn/pub_link/Collateral/EN6458-D.PDF; ComponentLink3Description: Package Specification; ComponentLink3URL: http://www.onsemi.com/pub_link/Collateral/ENA1601-D.PDF
footprint ONSC-MCPH-6_V (SOT23, 6-Leads, Body 2x1.6mm, Pitch 0.65mm)
part A pins: 1 S1, 2 G1, 6 D1
part B pins: 3 D2, 4 S2, 5 G2

## MCH6602-TL-E
designator Q?
N-Channel Power MOSFET, 30 V, 0.35 A, 3.7 Ohm, Dual, 6-Pin MCPH, Pb-Free, Tape and Reel; Manufacturer: On Semiconductor; PartNumber: MCH6602-TL-E; Channel Polarity: N Channel; Ciss Typ (pF): 7; Coss Typ (pF): 5.9; Crss Typ (pF): 2.3; ID Max (A): 0.35; PD Max (W): 0.8; V(BR)DSS Min (V): 30; VGS Max (V): 10; VGS(th) Max (V): 1.3; PackageReference: MCPH-6; PackageDescription: 6-Pin Small Outline Transistor, Body 2 x 1.6 mm, Pitch 0.65 mm; Supplier 1: Digi-Key; Supplier Part Number 1: MCH6602-TL-E-ND; Supplier 2: Mouser; Supplier Part Number 2: 863-MCH6602-TL-E; Configuration: Dual; Package Type: SC-88FL / MCPH-6; Packing: Tape and Reel; RoHS: Pb-Free; Mounting Technology: Surface Mount; ComponentLink1Description: Manufacturer URL; ComponentLink1URL: http://www.onsemi.com/; ComponentLink2Description: Datasheet; ComponentLink2URL: http://www.onsemi.cn/pub_link/Collateral/MCH6602-D.PDF; ComponentLink3Description: Package Specification; ComponentLink3URL: http://www.onsemi.com/pub_link/Collateral/ENA1601-D.PDF
footprint ONSC-MCPH-6_V (SOT23, 6-Leads, Body 2x1.6mm, Pitch 0.65mm)
part A pins: 1 S1, 2 G1, 6 D1
part B pins: 3 D2, 4 S2, 5 G2

## MCH6603-TL-H
designator Q?
P-Channel Power MOSFET, -50 V, -0.14 A, 23 mOhm, Dual, 6-Pin MCPH, Pb-Free, Tape and Reel; Manufacturer: On Semiconductor; PartNumber: MCH6603-TL-H; Channel Polarity: P Channel; Ciss Typ (pF): 7.4; Coss Typ (pF): 4.2; Crss Typ (pF): 1.3; ID Max (A): 0.14; PD Max (W): 0.8; V(BR)DSS Min (V): 50; VGS Max (V): 10; VGS(th) Max (V): 1.4; PackageReference: MCPH-6; PackageDescription: 6-Pin Small Outline Transistor, Body 2 x 1.6 mm, Pitch 0.65 mm; Supplier 1: Mouser; Supplier Part Number 1: 863-MCH6603-TL-H; Configuration: Dual; Package Type: SC-88FL / MCPH-6; Packing: Tape and Reel; RoHS: Pb-Free; Mounting Technology: Surface Mount; ComponentLink1Description: Manufacturer URL; ComponentLink1URL: http://www.onsemi.com/; ComponentLink2Description: Datasheet; ComponentLink2URL: http://www.onsemi.cn/pub_link/Collateral/EN6446-D.PDF; ComponentLink3Description: Package Specification; ComponentLink3URL: http://www.onsemi.com/pub_link/Collateral/ENA1601-D.PDF
footprint ONSC-MCPH-6_V (SOT23, 6-Leads, Body 2x1.6mm, Pitch 0.65mm)
part A pins: 1 S1, 2 G1, 6 D1
part B pins: 3 D2, 4 S2, 5 G2

## MCH6604-TL-E
designator Q?
N-Channel Power MOSFET, 50 V, 0.25 A, 7.8 Ohm, Dual, 6-Pin MCPH, Pb-Free, Tape and Reel; Manufacturer: On Semiconductor; PartNumber: MCH6604-TL-E; Channel Polarity: N Channel; Ciss Typ (pF): 6.6; Coss Typ (pF): 4.7; Crss Typ (pF): 1.7; ID Max (A): 0.25; PD Max (W): 0.8; V(BR)DSS Min (V): 50; VGS Max (V): 10; VGS(th) Max (V): 1.3; PackageReference: MCPH-6; PackageDescription: 6-Pin Small Outline Transistor, Body 2 x 1.6 mm, Pitch 0.65 mm; Supplier 1: Digi-Key; Supplier Part Number 1: MCH6604-TL-E-ND; Supplier 2: Newark; Supplier Part Number 2: 52T8112; Supplier 3: Mouser; Supplier Part Number 3: 863-MCH6604-TL-E; Configuration: Dual; Package Type: SC-88FL / MCPH-6; Packing: Tape and Reel; RoHS: Pb-Free; Mounting Technology: Surface Mount; ComponentLink1Description: Manufacturer URL; ComponentLink1URL: http://www.onsemi.com/; ComponentLink2Description: Datasheet; ComponentLink2URL: http://www.onsemi.cn/pub_link/Collateral/MCH6604-D.PDF; ComponentLink3Description: Package Specification; ComponentLink3URL: http://www.onsemi.com/pub_link/Collateral/ENA1601-D.PDF
footprint ONSC-MCPH-6_V (SOT23, 6-Leads, Body 2x1.6mm, Pitch 0.65mm)
part A pins: 1 S1, 2 G1, 6 D1
part B pins: 3 D2, 4 S2, 5 G2

## MCH6613-TL-E
designator Q?
Power MOSFET, 30 V, 0.35 A, 3.7 Ohm, -30 V, -0.2 A, 10.4 Ohm, 6-Pin MCPH, Pb-Free, Tape and Reel; Manufacturer: On Semiconductor; PartNumber: MCH6613-TL-E; Channel Polarity: Complementary; Configuration: Dual; PD Max (W): 0.8; V(BR)DSS Min (V): 30; VGS Max (V): 10; PackageReference: MCPH-6; PackageDescription: 6-Pin Small Outline Transistor, Body 2 x 1.6 mm, Pitch 0.65 mm; Supplier 1: Digi-Key; Supplier Part Number 1: MCH6613-TL-E-ND; Supplier 2: Mouser; Supplier Part Number 2: 863-MCH6613-TL-E; Package Type: SC-88FL / MCPH-6; Packing: Tape and Reel; RoHS: Pb-Free; Mounting Technology: Surface Mount; ComponentLink1Description: Manufacturer URL; ComponentLink1URL: http://www.onsemi.com/; ComponentLink2Description: Datasheet; ComponentLink2URL: http://www.onsemi.cn/pub_link/Collateral/MCH6613-D.PDF; ComponentLink3Description: Package Specification; ComponentLink3URL: http://www.onsemi.com/pub_link/Collateral/ENA1601-D.PDF
footprint ONSC-MCPH-6_V (SOT23, 6-Leads, Body 2x1.6mm, Pitch 0.65mm)
part A pins: 1 S1, 2 G1, 6 D1
part B pins: 3 D2, 4 S2, 5 G2

## MCH6660-TL-H
designator Q?
Power MOSFET, 20 V, 2 A, 136 mOhm, -20 V, -1.5 A, 266 mOhm, 6-Pin MCPH, Pb-Free, Tape and Reel; Manufacturer: On Semiconductor; PartNumber: MCH6660-TL-H; Channel Polarity: Complementary; Configuration: Dual; PD Max (W): 0.8; V(BR)DSS Min (V): 20; VGS Max (V): 10; PackageReference: MCPH-6; PackageDescription: 6-Pin Small Outline Transistor, Body 2 x 1.6 mm, Pitch 0.65 mm; Supplier 1: Digi-Key; Supplier Part Number 1: MCH6660-TL-H-ND; Supplier 2: Mouser; Supplier Part Number 2: 863-MCH6660-TL-H; Package Type: SC-88FL / MCPH-6; Packing: Tape and Reel; RoHS: Pb-Free; Mounting Technology: Surface Mount; ComponentLink1Description: Manufacturer URL; ComponentLink1URL: http://www.onsemi.com/; ComponentLink2Description: Datasheet; ComponentLink2URL: http://www.onsemi.cn/pub_link/Collateral/ENA1993-D.PDF; ComponentLink3Description: Package Specification; ComponentLink3URL: http://www.onsemi.com/pub_link/Collateral/ENA1601-D.PDF
footprint ONSC-MCPH-6_V (SOT23, 6-Leads, Body 2x1.6mm, Pitch 0.65mm)
part A pins: 1 S1, 2 G1, 6 D1
part B pins: 3 D2, 4 S2, 5 G2

## MCH6662-TL-H
designator Q?
N-Channel Power MOSFET, 20 V, 2 A, 160 mOhm, Dual, 6-Pin MCPH, Pb-Free, Tape and Reel; Manufacturer: On Semiconductor; PartNumber: MCH6662-TL-H; Channel Polarity: N Channel; Ciss Typ (pF): 128; Coss Typ (pF): 28; Crss Typ (pF): 21; ID Max (A): 2; PD Max (W): 0.8; V(BR)DSS Min (V): 20; VGS Max (V): 10; VGS(th) Max (V): 1.3; PackageReference: MCPH-6; PackageDescription: 6-Pin Small Outline Transistor, Body 2 x 1.6 mm, Pitch 0.65 mm; Supplier 1: Digi-Key; Supplier Part Number 1: MCH6662-TL-H-ND; Supplier 2: Newark; Supplier Part Number 2: 07W7089; Supplier 3: Mouser; Supplier Part Number 3: 863-MCH6662-TL-H; Configuration: Dual; Package Type: SC-88FL / MCPH-6; Packing: Tape and Reel; RoHS: Pb-Free; Mounting Technology: Surface Mount; ComponentLink1Description: Manufacturer URL; ComponentLink1URL: http://www.onsemi.com/; ComponentLink2Description: Datasheet; ComponentLink2URL: http://www.onsemi.cn/pub_link/Collateral/EN8999-D.PDF; ComponentLink3Description: Package Specification; ComponentLink3URL: http://www.onsemi.com/pub_link/Collateral/ENA1601-D.PDF
footprint ONSC-MCPH-6_V (SOT23, 6-Leads, Body 2x1.6mm, Pitch 0.65mm)
part A pins: 1 S1, 2 G1, 6 D1
part B pins: 3 D2, 4 S2, 5 G2

## MCH6663-TL-H
designator Q?
Power MOSFET, 30 V, 1.8 A, 188 mOhm, -30 V, -1.5 A, 325 mOhm, 6-Pin MCPH, Pb-Free, Tape and Reel; Manufacturer: On Semiconductor; PartNumber: MCH6663-TL-H; Channel Polarity: Complementary; Configuration: Dual; PD Max (W): 0.8; V(BR)DSS Min (V): 30; VGS Max (V): 20; VGS(th) Max (V): 2.6; PackageReference: MCPH-6; PackageDescription: 6-Pin Small Outline Transistor, Body 2 x 1.6 mm, Pitch 0.65 mm; Supplier 1: Digi-Key; Supplier Part Number 1: MCH6663-TL-H-ND; Supplier 2: Mouser; Supplier Part Number 2: 863-MCH6663-TL-H; Package Type: SC-88FL / MCPH-6; Packing: Tape and Reel; RoHS: Pb-Free; Mounting Technology: Surface Mount; ComponentLink1Description: Manufacturer URL; ComponentLink1URL: http://www.onsemi.com/; ComponentLink2Description: Datasheet; ComponentLink2URL: http://www.onsemi.com/pub_link/Collateral/EN8758-D.PDF; ComponentLink3Description: Package Specification; ComponentLink3URL: http://www.onsemi.com/pub_link/Collateral/ENA1601-D.PDF
footprint ONSC-MCPH-6_V (SOT23, 6-Leads, Body 2x1.6mm, Pitch 0.65mm)
part A pins: 1 S1, 2 G1, 6 D1
part B pins: 3 D2, 4 S2, 5 G2

## MGSF1N02LT1G
designator Q?
Power MOSFET, 750 mA, 20 V, N-Channel, 3-Pin SOT-23, Pb-Free, Tape and Reel; Manufacturer: On Semiconductor; PartNumber: MGSF1N02LT1G; Channel Polarity: N Channel; Ciss Typ (pF): 125; Configuration: Single; Coss Typ (pF): 120; Crss Typ (pF): 45; ID Max (A): 0.75; PD Max (W): 0.4; V(BR)DSS Min (V): 20; VGS(th) Max (V): 2.4; DatasheetVersion: Rev. 6; PackageVersion: Rev. AP, 11/2009; PackageReference: SOT-23-3-318-08; PackageDescription: 3-Pin Small Outline Transistor, Body 2.92 x 1.3 mm, Pitch 0.95 mm; Supplier 1: Digi-Key; Supplier Part Number 1: MGSF1N02LT1GOSTR-ND; Supplier 2: Digi-Key; Supplier Part Number 2: MGSF1N02LT1GOSCT-ND; Supplier 3: Digi-Key; Supplier Part Number 3: MGSF1N02LT1GOSDKR-ND; Supplier 4: Farnell; Supplier Part Number 4: 2317881; Supplier 5: Farnell; Supplier Part Number 5: 1216187; Supplier 6: Farnell; Supplier Part Number 6: 1216187RL; Supplier 7: Newark; Supplier Part Number 7: 83H7317; Supplier 8: Newark; Supplier Part Number 8: 85W3162; Supplier 9: Newark; Supplier Part Number 9: 97K5006; Supplier 10: Mouser; Supplier Part Number 10: 863-MGSF1N02LT1G; Package Type: SOT-23-3; Packing: Tape and Reel; RoHS: Pb-Free; VGS Max (V): 20; Mounting Technology: Surface Mount; ComponentLink1Description: Manufacturer URL; ComponentLink1URL: http://www.onsemi.com/; ComponentLink2Description: Datasheet; ComponentLink2URL: http://www.onsemi.cn/pub_link/Collateral/MGSF1N02LT1-D.PDF; ComponentLink3Description: Package Specification; ComponentLink3URL: http://www.onsemi.cn/pub_link/Collateral/318-08.PDF
footprint ONSC-SOT-23-3-318-08_V (SOT23, 3-Leads, Body 2.92x1.3mm, Pitch 0.95mm)
pins: 1 G, 2 S, 3 D

## MGSF1N03LT1G
designator Q?
Power MOSFET, 30 V, 2.1 A, Single N-Channel, 3-Pin SOT-23, Pb-Free, Tape and Reel; Manufacturer: On Semiconductor; PartNumber: MGSF1N03LT1G; Channel Polarity: N Channel; Ciss Typ (pF): 140; Coss Typ (pF): 100; Crss Typ (pF): 40; ID Max (A): 2.1; V(BR)DSS Min (V): 30; VGS Max (V): 20; VGS(th) Max (V): 2.4; DatasheetVersion: Rev. 10; PackageVersion: Rev. AP, 11/2009; PackageReference: SOT-23-3-318-08; PackageDescription: 3-Pin Small Outline Transistor, Body 2.92 x 1.3 mm, Pitch 0.95 mm; Supplier 1: Digi-Key; Supplier Part Number 1: MGSF1N03LT1GOSTR-ND; Supplier 2: Digi-Key; Supplier Part Number 2: MGSF1N03LT1GOSCT-ND; Supplier 3: Digi-Key; Supplier Part Number 3: MGSF1N03LT1GOSDKR-ND; Supplier 4: Farnell; Supplier Part Number 4: 1453636RL; Supplier 5: Farnell; Supplier Part Number 5: 1453636; Supplier 6: Newark; Supplier Part Number 6: 83H7318; Supplier 7: Newark; Supplier Part Number 7: 96K4519; Supplier 8: Mouser; Supplier Part Number 8: 863-MGSF1N03LT1G; Configuration: Single; Package Type: SOT-23-3; Packing: Tape and Reel; RoHS: Pb-Free; Mounting Technology: Surface Mount; ComponentLink1Description: Manufacturer URL; ComponentLink1URL: http://www.onsemi.com/; ComponentLink2Description: Datasheet; ComponentLink2URL: http://www.onsemi.cn/pub_link/Collateral/MGSF1N03LT1-D.PDF; ComponentLink3Description: Package Specification; ComponentLink3URL: http://www.onsemi.cn/pub_link/Collateral/318-08.PDF
footprint ONSC-SOT-23-3-318-08_V (SOT23, 3-Leads, Body 2.92x1.3mm, Pitch 0.95mm)
pins: 1 G, 2 S, 3 D

## MGSF1N03LT3G
designator Q?
Power MOSFET, 30 V, 2.1 A, Single N-Channel, 3-Pin SOT-23, Pb-Free, Tape and Reel; Manufacturer: On Semiconductor; PartNumber: MGSF1N03LT3G; Channel Polarity: N Channel; Ciss Typ (pF): 140; Coss Typ (pF): 100; Crss Typ (pF): 40; ID Max (A): 2.1; V(BR)DSS Min (V): 30; VGS Max (V): 20; VGS(th) Max (V): 2.4; DatasheetVersion: Rev. 10; PackageVersion: Rev. AP, 11/2009; PackageReference: SOT-23-3-318-08; PackageDescription: 3-Pin Small Outline Transistor, Body 2.92 x 1.3 mm, Pitch 0.95 mm; Supplier 1: Digi-Key; Supplier Part Number 1: MGSF1N03LT3G-ND; Supplier 2: Mouser; Supplier Part Number 2: 863-MGSF1N03LT3G; Configuration: Single; Package Type: SOT-23-3; Packing: Tape and Reel; RoHS: Pb-Free; Mounting Technology: Surface Mount; ComponentLink1Description: Manufacturer URL; ComponentLink1URL: http://www.onsemi.com/; ComponentLink2Description: Datasheet; ComponentLink2URL: http://www.onsemi.cn/pub_link/Collateral/MGSF1N03LT1-D.PDF; ComponentLink3Description: Package Specification; ComponentLink3URL: http://www.onsemi.cn/pub_link/Collateral/318-08.PDF
footprint ONSC-SOT-23-3-318-08_V (SOT23, 3-Leads, Body 2.92x1.3mm, Pitch 0.95mm)
pins: 1 G, 2 S, 3 D

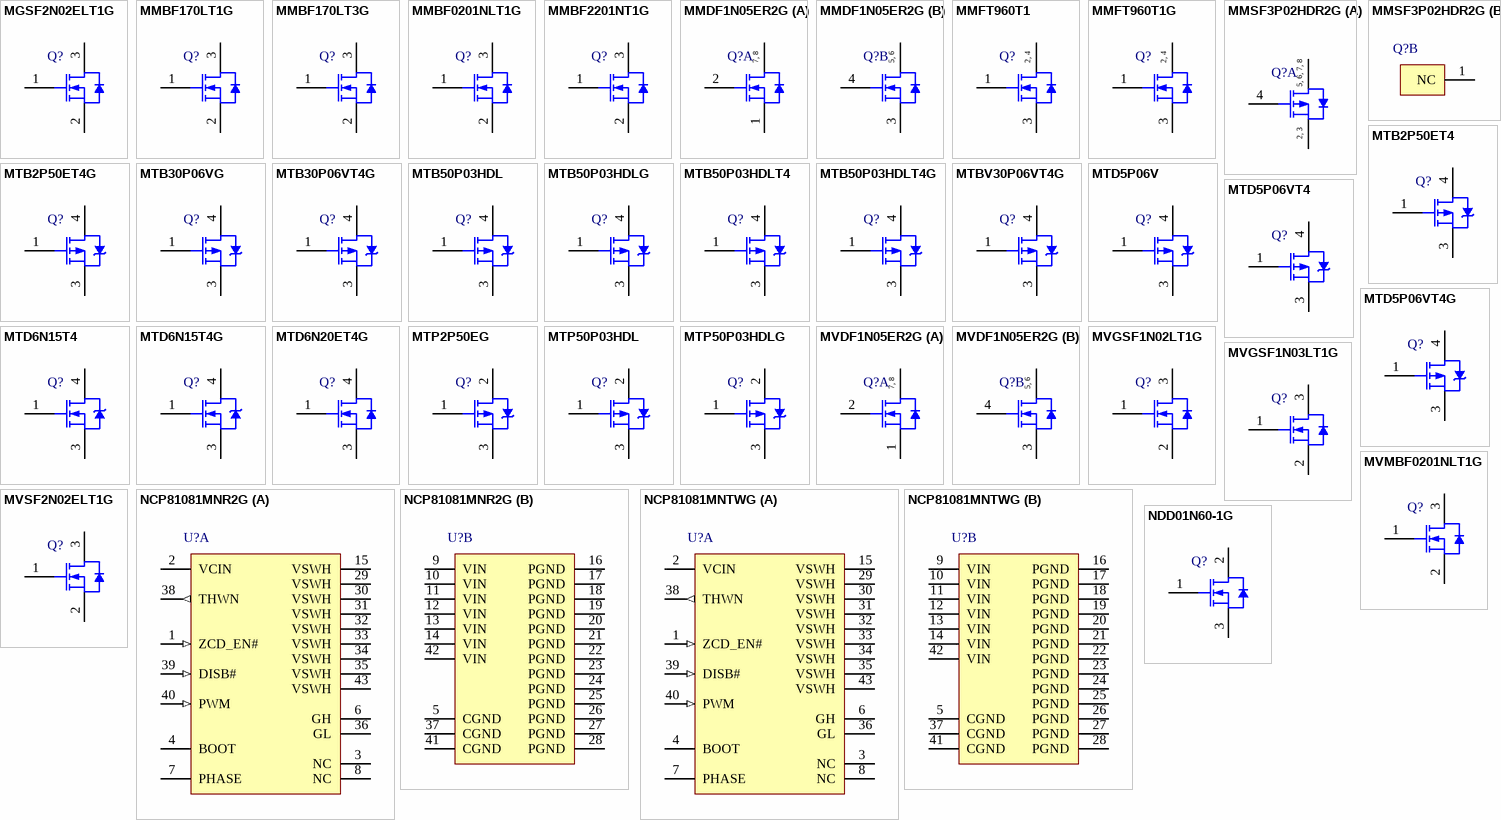
[diagram p7: symbols MGSF2N02ELT1G to NDD01N60-1G]